# Altium footprint library TI SSOP-28 DB.PCBLIB: 1 footprints
Each footprint in its own frame and in the unit in brackets; x right, y up, seen from the top. Pads: shape width x height; smd on the part's side, far side on the other; paste and mask are expansions set on the pad; w line width, h text height; cw(c..) or ccw(c..) is an arc to the next point about the centre after c.
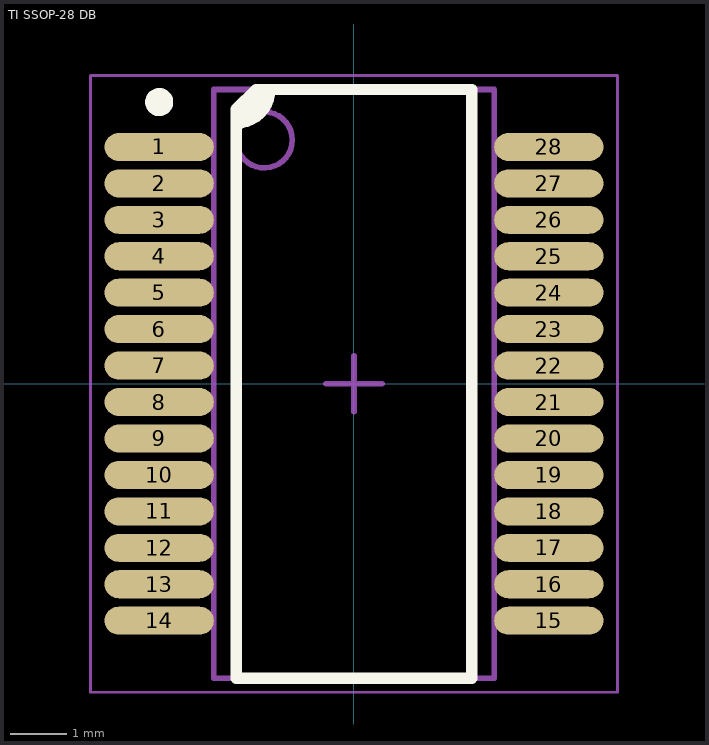
[diagram p0: the footprint, top view; thin cyan lines are the x and y axes]

## TI SSOP-28 DB [mm] "TSSOP, 28-Leads, Body 10.20x5.30mm, Pitch 0.65mm, IPC Medium Density"
height 2
pads (28):
  oval 1.95x0.5 smd: 1(-3.475,4.225) 2(-3.475,3.575) 3(-3.475,2.925) 4(-3.475,2.275) 5(-3.475,1.625) 6(-3.475,0.975) 7(-3.475,0.325) 8(-3.475,-0.325) 9(-3.475,-0.975) 10(-3.475,-1.625) 11(-3.475,-2.275) 12(-3.475,-2.925) 13(-3.475,-3.575) 14(-3.475,-4.225) 15(3.475,-4.225) 16(3.475,-3.575) 17(3.475,-2.925) 18(3.475,-2.275) 19(3.475,-1.625) 20(3.475,-0.975) 21(3.475,-0.325) 22(3.475,0.325) 23(3.475,0.975) 24(3.475,1.625) 25(3.475,2.275) 26(3.475,2.925) 27(3.475,3.575) 28(3.475,4.225)
Top Overlay:
  circle w0.25: c-3.475,5.025 r0.125
  region: -2.1,4.65 -1.981,4.65 -1.76,4.741 -1.591,4.91 -1.5,5.131 -1.5,5.25 -1.8,5.25 -2.1,4.95
  lines w0.2: -2.1,4.65 ccw(c-2.1,5.25) -1.5,5.25 ; -2.1,-5.25 -2.1,4.9 -1.75,5.25 2.1,5.25 2.1,-5.25 -2.1,-5.25
Mechanical 13:
  circle w0.1: c-1.6,4.35 r0.5
  lines w0.1: -2.5,-5.25 -2.5,5.25 2.5,5.25 2.5,-5.25 -2.5,-5.25
Mechanical 15:
  lines w0.05: -4.7,-5.5 -4.7,5.5 4.7,5.5 4.7,-5.5 -4.7,-5.5
  lines w0.1: -0.5,0 0.5,0 ; 0,-0.5 0,0.5
3D body "SSOP-28-TI-DB.STEP": height 1.97, standoff 0, extent -3.91,-5.1 3.911,5.1